# EAGLE library part BQ27541 (library my_texasInstruments)
Conrad 1013523 - 62
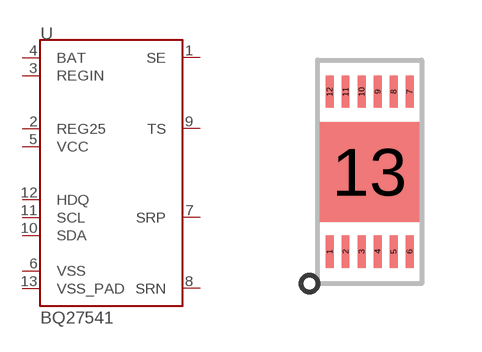
[diagram p1: symbol with the pads of SON_12PIN; footprint SON_12PIN]

Designator prefix -

## BQ27541  [SON_12PIN]
1  SE
2  REG25
3  REGIN
4  BAT
5  VCC
6  VSS
7  SRP
8  SRN
9  TS
10  SDA
11  SCL
12  HDQ
13  VSS_PAD

## Footprint SON_12PIN (pad centres in mm)
smd 0.2 x 0.8: 1 0.3,0; 2 0.7,0; 3 1.1,0; 4 1.5,0; 5 1.9,0; 6 2.3,0; 7 2.3,4; 8 1.9,4; 9 1.5,4; 10 1.1,4; 11 0.7,4; 12 0.3,4
smd 2.5 x 2.5: 13 1.3,2